# Altium integrated library ic-digital.IntLib: 12 symbols
Pins are listed as number, name and electrical type; pins without a type are passive.

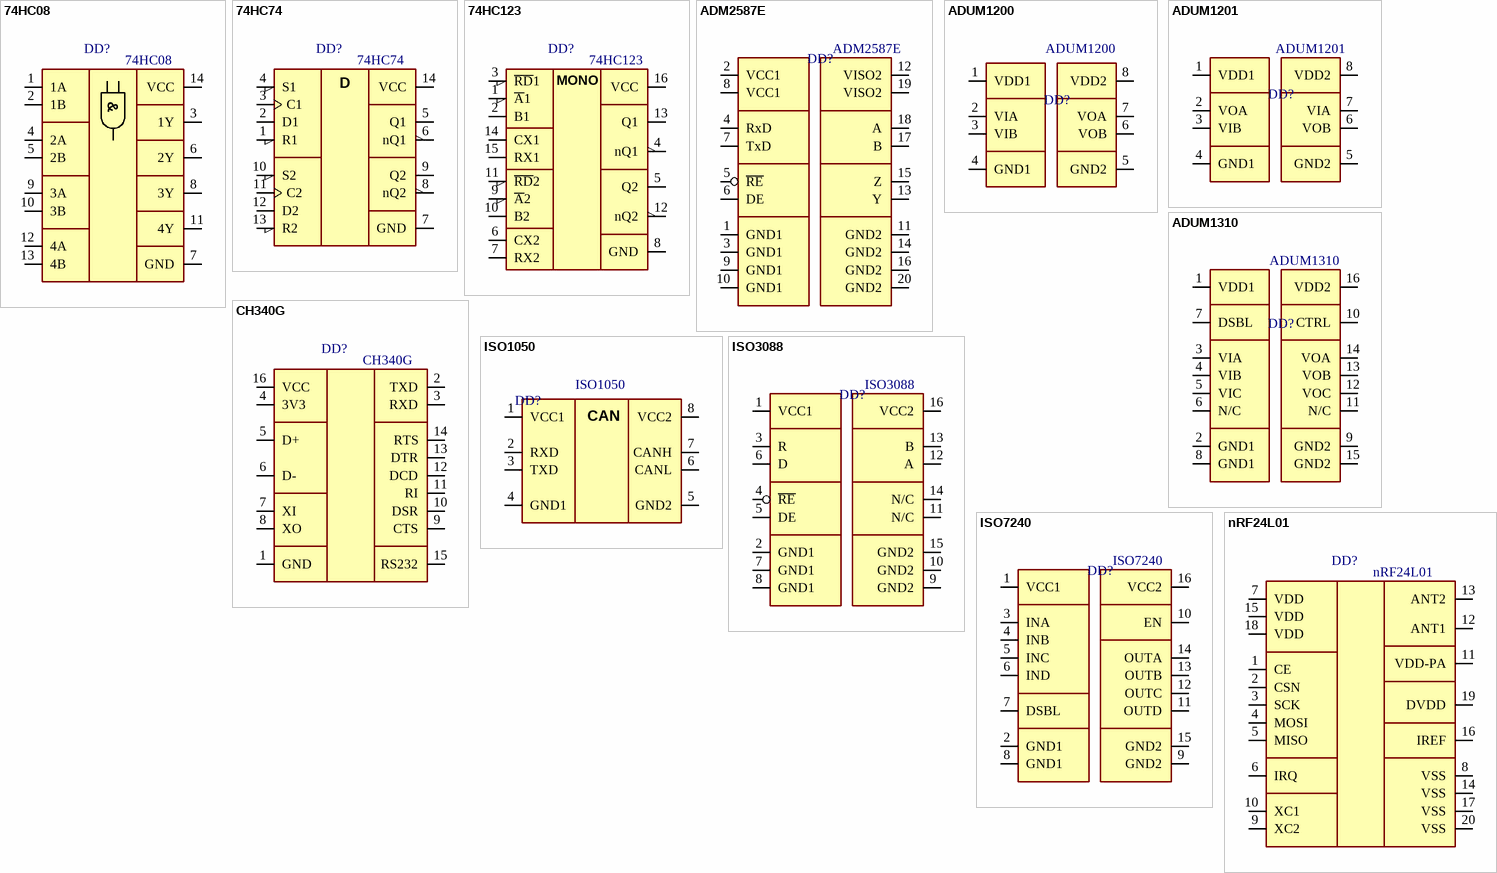
[diagram p0: symbols 74HC08 to nRF24L01]

## 74HC08
designator DD?  Name: 74HC08
4x 2-AND Logic 6V; Manufacturer: NXP; ManufacturerPartNumber: 74HC08D; Type: ic-digital; Power/Voltage: 6V; RevisionDate: 20-11-2018; Package: SOIC-14
footprint SOIC-14 (SOIC, 14-Leads, Body 8,70x3,95mm, Pitch 1,27mm, IPC Medium Density)
footprint DIP-14
footprint SSOP-14 (SOP, 14-Leads, Body 5,05x5,30mm, Pitch 0,65mm, IPC Medium Density)
pins: 1 1A, 2 1B, 3 1Y, 4 2A, 5 2B, 6 2Y, 7 GND, 8 3Y, 9 3A, 10 3B, 11 4Y, 12 4A, 13 4B, 14 VCC
text: &

## 74HC74
designator DD?  Name: 74HC74
2x D-Trigger 6V; Manufacturer: Texas Instruments; ManufacturerPartNumber: SN74HC74DR; Type: ic-digital; Power/Voltage: 6V; RevisionDate: 20-11-2018; Package: SOIC-14
footprint SOIC-14 (SOIC, 14-Leads, Body 8,70x3,95mm, Pitch 1,27mm, IPC Medium Density)
pins: 1 R1, 2 D1, 3 C1, 4 S1, 5 Q1, 6 nQ1, 7 GND, 8 nQ2, 9 Q2, 10 S2, 11 C2, 12 D2, 13 R2, 14 VCC
text: D

## 74HC123
designator DD?  Name: 74HC123
2x Monostable oscillator; Manufacturer: NXP; ManufacturerPartNumber: 74HC123D; Power/Voltage: 6V; Type: ic-digital; RevisionDate: 20-11-2018; Package: SOIC-16
footprint SOIC-16M/5.3mm (SOIC, 16-Leads, Body 10,60x5,60mm, Pitch 1,27mm, IPC Medium Density)
pins: 1 ~{A}1, 2 B1, 3 ~{RD}1, 4 nQ1, 5 Q2, 6 CX2, 7 RX2, 8 GND, 9 ~{A}2, 10 B2, 11 ~{RD}2, 12 nQ2, 13 Q1, 14 CX1, 15 RX1, 16 VCC
text: MONO

## ADM2587E
designator DD?  Name: ADM2587E
RS-485 Isolation DC-DC; Manufacturer: Analog Devices; ManufacturerPartNumber: ADM2587EBRWZ; Power/Voltage: 5V; Package: SOIC-20; Type: ic-comm; RevisionDate: 20-11-2018
footprint SOIC-20L/7.5mm (SOIC, 20-Leads, Body 12,70x7,50mm, Pitch 1,27mm, IPC Medium Density)
pins: 1 GND1, 2 VCC1, 3 GND1, 4 RxD, 5 ~{RE}, 6 DE, 7 TxD, 8 VCC1, 9 GND1, 10 GND1, 11 GND2, 12 VISO2, 13 Y, 14 GND2, 15 Z, 16 GND2, 17 B, 18 A, 19 VISO2, 20 GND2

## ADUM1200
designator DD?  Name: ADUM1200
RX Isolation 5V 1MHz; Manufacturer: Analog Devices; ManufacturerPartNumber: ADUM1200ARZ; Type: ic-comm; Power/Voltage: 5V; RevisionDate: 20-11-2018; Package: SOIC-8
footprint SOIC-8 (SOIC, 8-Leads, Body 4,90x3,95mm, Pitch 1,27mm, IPC Medium Density)
pins: 1 VDD1, 2 VIA, 3 VIB, 4 GND1, 5 GND2, 6 VOB, 7 VOA, 8 VDD2

## ADUM1201
designator DD?  Name: ADUM1201
RX/TX Isolation 5V 1MHz; Manufacturer: Analog Devices; ManufacturerPartNumber: ADUM1201ARZ; Type: ic-comm; Power/Voltage: 5V; RevisionDate: 20-11-2018; Package: SOIC-8
footprint SOIC-8 (SOIC, 8-Leads, Body 4,90x3,95mm, Pitch 1,27mm, IPC Medium Density)
pins: 1 VDD1, 2 VOA, 3 VIB, 4 GND1, 5 GND2, 6 VOB, 7 VIA, 8 VDD2

## ADUM1310
designator DD?  Name: ADUM1310
RX Isolation 3ch 5V 1MHz; Manufacturer: Analog Devices; ManufacturerPartNumber: ADUM1310ARWZ; Type: ic-comm; Power/Voltage: 5V; RevisionDate: 20-11-2018; Package: SOIC-16
footprint SOIC-16L/7.5mm (SOIC, 16-Leads, Body 10,60x7,50mm, Pitch 1,27mm, IPC Medium Density)
pins: 1 VDD1, 2 GND1, 3 VIA, 4 VIB, 5 VIC, 6 N/C, 7 DSBL, 8 GND1, 9 GND2, 10 CTRL, 11 N/C, 12 VOC, 13 VOB, 14 VOA, 15 GND2, 16 VDD2

## CH340G
designator DD?  Name: CH340G
USB-UART Converter 1MHz; Manufacturer: China; Power/Voltage: 5V; ManufacturerPartNumber: CH340G; Type: ic-comm; RevisionDate: 20-11-2018; Package: SOIC-16
footprint SOIC-16 (SOIC, 16-Leads, Body 10,60x3,90mm, Pitch 1,27mm, IPC Medium Density)
pins: 1 GND, 2 TXD, 3 RXD, 4 3V3, 5 D+, 6 D-, 7 XI, 8 XO, 9 CTS, 10 DSR, 11 RI, 12 DCD, 13 DTR, 14 RTS, 15 RS232, 16 VCC

## ISO1050
designator DD?  Name: ISO1050
CAN Isolation 5V 1MHz; Manufacturer: Texas Instruments; ManufacturerPartNumber: ISO1050DUBR; Type: ic-comm; Power/Voltage: 5V; RevisionDate: 20-11-2018; Package: SOP8
footprint DIP-SMD-8 (SOJ, 8-Leads, Body 4,90x6,50mm, Pitch 2,54mm, IPC Low Density)
pins: 1 VCC1, 2 RXD, 3 TXD, 4 GND1, 5 GND2, 6 CANL, 7 CANH, 8 VCC2
text: CAN

## ISO3088
designator DD?  Name: ISO3088
RS-485 Half-Duplex Isolation 3-5V 20MHz; Manufacturer: Texas Instruments; ManufacturerPartNumber: ISO3088DW; Power/Voltage: 5V; Type: ic-comm; RevisionDate: 20-11-2018; Package: SOIC-16
footprint SOIC-16L/7.5mm (SOIC, 16-Leads, Body 10,60x7,50mm, Pitch 1,27mm, IPC Medium Density)
pins: 1 VCC1, 2 GND1, 3 R, 4 ~{RE}, 5 DE, 6 D, 7 GND1, 8 GND1, 9 GND2, 10 GND2, 11 N/C, 12 A, 13 B, 14 N/C, 15 GND2, 16 VCC2

## ISO7240
designator DD?  Name: ISO7240
TX Isolation 3-5V 10MHz; Manufacturer: Texas Instruments; ManufacturerPartNumber: ISO7240ADWR; Power/Voltage: 5V; Type: ic-comm; RevisionDate: 20-11-2018; Package: SOIC-16
footprint SOIC-16L/7.5mm (SOIC, 16-Leads, Body 10,60x7,50mm, Pitch 1,27mm, IPC Medium Density)
pins: 1 VCC1, 2 GND1, 3 INA, 4 INB, 5 INC, 6 IND, 7 DSBL, 8 GND1, 9 GND2, 10 EN, 11 OUTD, 12 OUTC, 13 OUTB, 14 OUTA, 15 GND2, 16 VCC2

## nRF24L01
designator DD?  Name: nRF24L01
2.5GHz RX/TX 2MHz; Manufacturer: Nordic; ManufacturerPartNumber: NRF24L01P-R; Power/Voltage: 3V; Type: ic-comm; RevisionDate: 20-11-2018; Package: QFN-20
footprint QFN-20/4040 (QFN, 20-Leads, Body 4,00x4,00mm, Pitch 0,50mm, Thermal Pad 2,80x2,80mm, IPC Medium Density)
pins: 1 CE, 2 CSN, 3 SCK, 4 MOSI, 5 MISO, 6 IRQ, 7 VDD, 8 VSS, 9 XC2, 10 XC1, 11 VDD-PA, 12 ANT1, 13 ANT2, 14 VSS, 15 VDD, 16 IREF, 17 VSS, 18 VDD, 19 DVDD, 20 VSS